# Altium schematic symbol library UM_IMP_Library.SchLib: 7 symbols
Pins are listed as number, name and electrical type; pins without a type are passive.

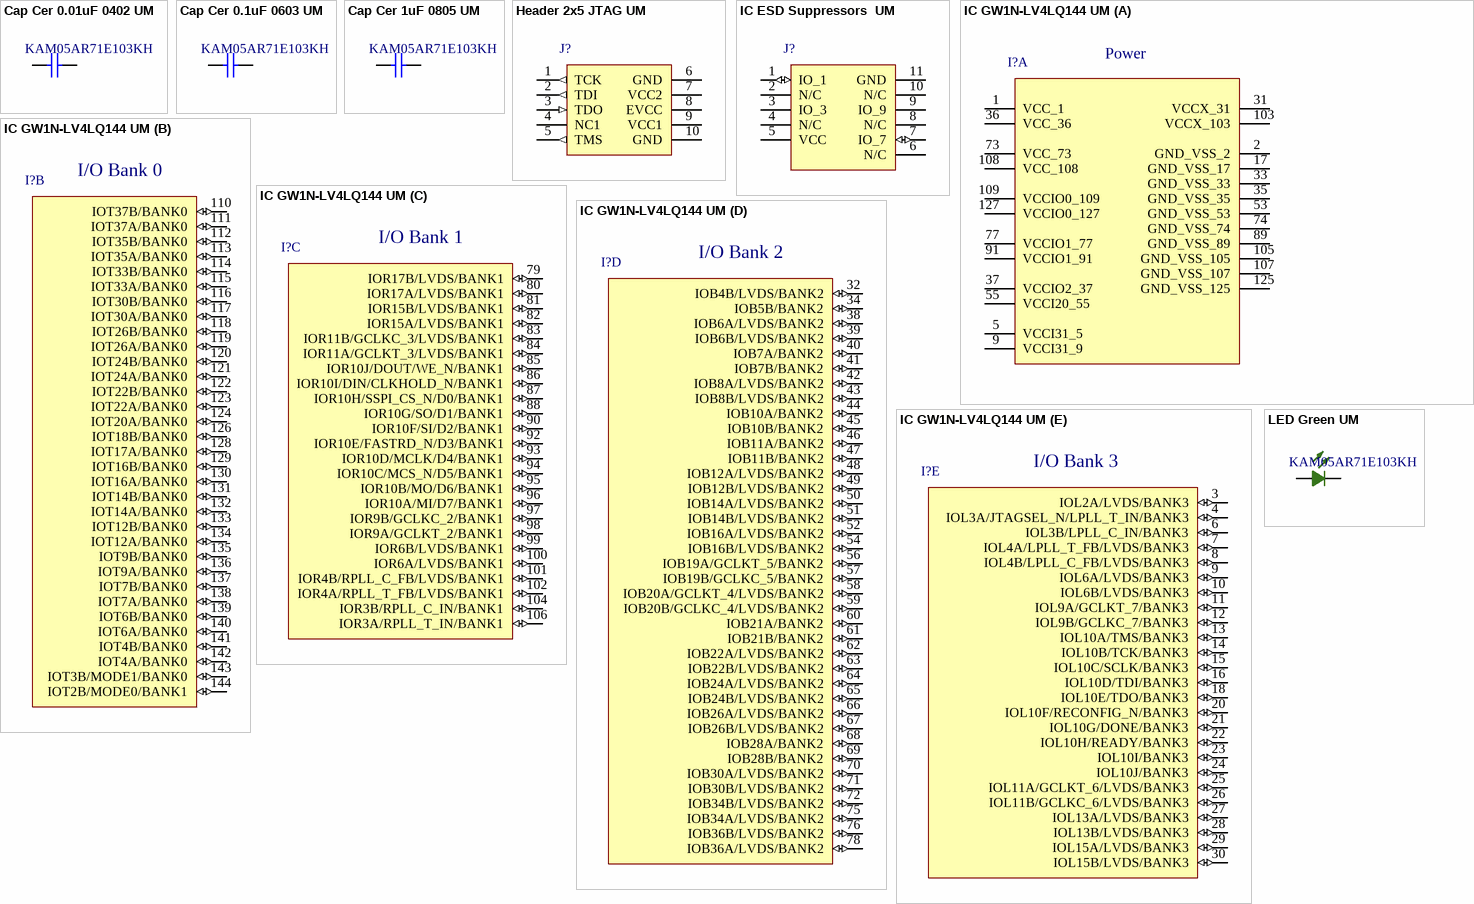
[diagram p0: symbols Cap Cer 0.01uF 0402 UM to LED Green UM]

## Cap Cer 0.01uF 0402 UM
designator KAM05AR71E103KH
Bypass Capacitor 0.01uF; Manufacturer: KEMET; Manufacturer Part Number: C0402C103K1RACAUTO; Distributor: Mouser; Distributor Part Number: 80-C0402C103K1RAUTO; Last Revision Date: 16.5.2024.; Temperature Range: -55°C ~ +125°C; Mounting: SMD; Status: Active; Capacitance: 0.01uF; DB Parameter 2: *; DB Parameter 3: *; Populated: *
footprint Cap 0402 UM
pins: 1, 2

## Cap Cer 0.1uF 0603 UM
designator KAM05AR71E103KH
Bypass Capacitor 0.1uF; Manufacturer: KEMET; Manufacturer Part Number: C0603X104K1RACAUTO; Distributor: Mouser; Distributor Part Number: 80-C0603X104K1RAUTO; Last Revision Date: 16.5.2024.; Temperature Range: -55°C ~ +125°C; Mounting: SMD; Status: Active; Capacitance: 0.1uF; DB Parameter 2: *; DB Parameter 3: *; Populated: *
footprint Cap Cer 0603 UM
pins: 1, 2

## Cap Cer 1uF 0805 UM
designator KAM05AR71E103KH
Bypass Capacitor 1uF; Manufacturer: KEMET; Manufacturer Part Number: C0805X105K8RAC7210; Distributor: Mouser; Distributor Part Number: 80-C0805X105K8RACLR; Last Revision Date: 16.5.2024.; Temperature Range: -55°C ~ +125°C; Mounting: SMD; Status: Active; Capacitance: 1uF; DB Parameter 2: *; DB Parameter 3: *; Populated: *
footprint Cap Cer 0805 UM
pins: 1, 2

## Header 2x5 JTAG UM
designator J?
2x5 JTAG Header; Manufacturer: Samtec; Manufacturer Part Number: TSS-105-04-L-D-RA; Distributor: Mouser; Distributor Part Number: 200-TSS10504LDRA; Last Revision Date: 16.5.2024.; Temperature Range: -55°C ~ +125°C; Mounting: TH; Status: Active; DB Parameter 1: *; DB Parameter 2: *; DB Parameter 3: *; Populated: *
footprint Header 2x5 JTAG UM
pins: 1 TCK (out), 2 TDI (out), 3 TDO (in), 4 NC1, 5 TMS (out), 6 GND (power), 7 VCC2 (power), 8 EVCC (power), 9 VCC1 (power), 10 GND (power)

## IC ESD Suppressors  UM
designator J?
ESD  Protection Diode Array; Manufacturer: Nexperia; Manufacturer Part Number: SZESD1014MUTAG; Breakdown Voltage: 5V; Working Voltage: 3.3V; Clamping Voltage: 11V; Peak pulse current: 30A; Distributor: onsemi; Distributor Part Number: 863-SZESD1014MUTAG; Last Revision Date: 16.5.2024.; Temperature Range: -40°C ~ +125°C; Mounting: SMD; Status: Active; Populated: *
footprint IC ESD1014 UM
pins: 1 IO_1 (io), 2 N/C, 3 IO_3 (power), 4 N/C, 5 VCC (power), 6 N/C, 7 IO_7 (io), 8 N/C, 9 IO_9 (power), 10 N/C, 11 GND (power)

## IC GW1N-LV4LQ144 UM
designator I?
FPGA - Field Programmable Gate Array; Manufacturer: GOWIN; Manufacturer Part Number: GW1N-LV4LQ144C5/I4; Supply Voltage: 1.14V ~ 1.26V; Flash size: 256Kbits; DPRAM: 180Kbits; Distributor: Mouser; Distributor Part Number: 192-GW1NLV4LQ144C5I4; Last Revision Date: 13.5.2024.; Temperature Range: 0°C ~ +85°C; Part ID: *; Mounting: SMD; Status: Not Checked; DB Parameter 1: *; DB Parameter 2: *; DB Parameter 3: *; Production Status: *; Populated: *; ComponentLink1Description: Datasheet; ComponentLink1URL: https://eu.mouser.com/datasheet/2/1033/GW1N_series_of_FPGA_Products_Data_Sheet-1830682.pdf; ComponentLink2Description: Distributor; ComponentLink2URL: https://eu.mouser.com/ProductDetail/GOWIN-Semiconductor/GW1N-LV4LQ144C5-I4?qs=wnTfsH77Xs54528DK%252Byv5g%3D%3D; ComponentLink3Description: Manufacturer; ComponentLink3URL: https://www.gowinsemi.com/en/
footprint IC GW1N-LV4LQ144 UM (FPGA - Field Programmable Gate Array)
part A pins: 1 VCC_1 (power), 2 GND_VSS_2 (power), 5 VCCI31_5 (power), 9 VCCI31_9 (power), 17 GND_VSS_17 (power), 31 VCCX_31 (power), 33 GND_VSS_33 (power), 35 GND_VSS_35 (power), 36 VCC_36 (power), 37 VCCIO2_37 (power), 53 GND_VSS_53 (power), 55 VCCI20_55 (power), 73 VCC_73 (power), 74 GND_VSS_74 (power), 77 VCCIO1_77 (power), 89 GND_VSS_89 (power), 91 VCCIO1_91 (power), 103 VCCX_103 (power), 105 GND_VSS_105 (power), 107 GND_VSS_107 (power), 108 VCC_108 (power), 109 VCCIO0_109 (power), 125 GND_VSS_125 (power), 127 VCCIO0_127 (power)
part B pins: 110 IOT37B/BANK0 (io), 111 IOT37A/BANK0 (io), 112 IOT35B/BANK0 (io), 113 IOT35A/BANK0 (io), 114 IOT33B/BANK0 (io), 115 IOT33A/BANK0 (io), 116 IOT30B/BANK0 (io), 117 IOT30A/BANK0 (io), 118 IOT26B/BANK0 (io), 119 IOT26A/BANK0 (io), 120 IOT24B/BANK0 (io), 121 IOT24A/BANK0 (io), 122 IOT22B/BANK0 (io), 123 IOT22A/BANK0 (io), 124 IOT20A/BANK0 (io), 126 IOT18B/BANK0 (io), 128 IOT17A/BANK0 (io), 129 IOT16B/BANK0 (io), 130 IOT16A/BANK0 (io), 131 IOT14B/BANK0 (io), 132 IOT14A/BANK0 (io), 133 IOT12B/BANK0 (io), 134 IOT12A/BANK0 (io), 135 IOT9B/BANK0 (io), 136 IOT9A/BANK0 (io), 137 IOT7B/BANK0 (io), 138 IOT7A/BANK0 (io), 139 IOT6B/BANK0 (io), 140 IOT6A/BANK0 (io), 141 IOT4B/BANK0 (io), 142 IOT4A/BANK0 (io), 143 IOT3B/MODE1/BANK0 (io), 144 IOT2B/MODE0/BANK1 (io)
part C pins: 79 IOR17B/LVDS/BANK1 (io), 80 IOR17A/LVDS/BANK1 (io), 81 IOR15B/LVDS/BANK1 (io), 82 IOR15A/LVDS/BANK1 (io), 83 IOR11B/GCLKC_3/LVDS/BANK1 (io), 84 IOR11A/GCLKT_3/LVDS/BANK1 (io), 85 IOR10J/DOUT/WE_N/BANK1 (io), 86 IOR10I/DIN/CLKHOLD_N/BANK1 (io), 87 IOR10H/SSPI_CS_N/D0/BANK1 (io), 88 IOR10G/SO/D1/BANK1 (io), 90 IOR10F/SI/D2/BANK1 (io), 92 IOR10E/FASTRD_N/D3/BANK1 (io), 93 IOR10D/MCLK/D4/BANK1 (io), 94 IOR10C/MCS_N/D5/BANK1 (io), 95 IOR10B/MO/D6/BANK1 (io), 96 IOR10A/MI/D7/BANK1 (io), 97 IOR9B/GCLKC_2/BANK1 (io), 98 IOR9A/GCLKT_2/BANK1 (io), 99 IOR6B/LVDS/BANK1 (io), 100 IOR6A/LVDS/BANK1 (io), 101 IOR4B/RPLL_C_FB/LVDS/BANK1 (io), 102 IOR4A/RPLL_T_FB/LVDS/BANK1 (io), 104 IOR3B/RPLL_C_IN/BANK1 (io), 106 IOR3A/RPLL_T_IN/BANK1 (io)
part D pins: 32 IOB4B/LVDS/BANK2 (io), 34 IOB5B/BANK2 (io), 38 IOB6A/LVDS/BANK2 (io), 39 IOB6B/LVDS/BANK2 (io), 40 IOB7A/BANK2 (io), 41 IOB7B/BANK2 (io), 42 IOB8A/LVDS/BANK2 (io), 43 IOB8B/LVDS/BANK2 (io), 44 IOB10A/BANK2 (io), 45 IOB10B/BANK2 (io), 46 IOB11A/BANK2 (io), 47 IOB11B/BANK2 (io), 48 IOB12A/LVDS/BANK2 (io), 49 IOB12B/LVDS/BANK2 (io), 50 IOB14A/LVDS/BANK2 (io), 51 IOB14B/LVDS/BANK2 (io), 52 IOB16A/LVDS/BANK2 (io), 54 IOB16B/LVDS/BANK2 (io), 56 IOB19A/GCLKT_5/BANK2 (io), 57 IOB19B/GCLKC_5/BANK2 (io), 58 IOB20A/GCLKT_4/LVDS/BANK2 (io), 59 IOB20B/GCLKC_4/LVDS/BANK2 (io), 60 IOB21A/BANK2 (io), 61 IOB21B/BANK2 (io), 62 IOB22A/LVDS/BANK2 (io), 63 IOB22B/LVDS/BANK2 (io), 64 IOB24A/LVDS/BANK2 (io), 65 IOB24B/LVDS/BANK2 (io), 66 IOB26A/LVDS/BANK2 (io), 67 IOB26B/LVDS/BANK2 (io), 68 IOB28A/BANK2 (io), 69 IOB28B/BANK2 (io), 70 IOB30A/LVDS/BANK2 (io), 71 IOB30B/LVDS/BANK2 (io), 72 IOB34B/LVDS/BANK2 (io), 75 IOB34A/LVDS/BANK2 (io), 76 IOB36B/LVDS/BANK2 (io), 78 IOB36A/LVDS/BANK2 (io)
part E pins: 3 IOL2A/LVDS/BANK3 (io), 4 IOL3A/JTAGSEL_N/LPLL_T_IN/BANK3 (io), 6 IOL3B/LPLL_C_IN/BANK3 (io), 7 IOL4A/LPLL_T_FB/LVDS/BANK3 (io), 8 IOL4B/LPLL_C_FB/LVDS/BANK3 (io), 9 IOL6A/LVDS/BANK3 (io), 10 IOL6B/LVDS/BANK3 (io), 11 IOL9A/GCLKT_7/BANK3 (io), 12 IOL9B/GCLKC_7/BANK3 (io), 13 IOL10A/TMS/BANK3 (io), 14 IOL10B/TCK/BANK3 (io), 15 IOL10C/SCLK/BANK3 (io), 16 IOL10D/TDI/BANK3 (io), 18 IOL10E/TDO/BANK3 (io), 20 IOL10F/RECONFIG_N/BANK3 (io), 21 IOL10G/DONE/BANK3 (io), 22 IOL10H/READY/BANK3 (io), 23 IOL10I/BANK3 (io), 24 IOL10J/BANK3 (io), 25 IOL11A/GCLKT_6/LVDS/BANK3 (io), 26 IOL11B/GCLKC_6/LVDS/BANK3 (io), 27 IOL13A/LVDS/BANK3 (io), 28 IOL13B/LVDS/BANK3 (io), 29 IOL15A/LVDS/BANK3 (io), 30 IOL15B/LVDS/BANK3 (io)
part A text: Power; /
part B text: I/O Bank 0
part C text: I/O Bank 1
part D text: I/O Bank 2
part E text: I/O Bank 3

## LED Green UM
designator KAM05AR71E103KH
Green LED; Manufacturer: Wurth Elektronik; Manufacturer Part Number: 150141GS66130; Forward Voltage: 3.2V; Distributor: Mouser; Distributor Part Number: 710-150141GS66130; Last Revision Date: 16.5.2024.; Temperature Range: -40°C ~ +100°C; Mounting: SMD; Status: Active; DB Parameter 2: *; DB Parameter 3: *; Populated: *
footprint Cap Cer 0805 UM
pins: A, K